# Altium schematic symbol library On_Semiconductor_SBAT54CTT1G.SchLib: 1 symbol
Pins are listed as number, name and electrical type; pins without a type are passive.

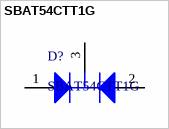
[diagram p0: symbol SBAT54CTT1G]

## SBAT54CTT1G
designator D?
Dual Series Cathode Schottky Barrier Diodes, 3-Pin SC-75, Pb-Free, Tape and Reel; Manufacturer: On Semiconductor; Note1: 0; IFSM Max (A): 0.6; Configuration: Common Cathode; trr Max (ns): 5; ComponentLink1Description: Manufacturer URL; ComponentLink2Description: Datasheet; DatasheetVersion: Rev. 4; Mounting Technology: Surface Mount; ComponentLink3URL: http://www.onsemi.com/pub_link/Collateral/463-01.PDF; ComponentLink3Description: Package Specification; ComponentLink1URL: http://www.onsemi.com/; PackageReference: SC-75-3-463-01; ComponentLink2URL: http://www.onsemi.cn/pub_link/Collateral/BAT54CTT1-D.PDF; Packing: Tape and Reel; PackageDescription: 3-Pin Small Outline Transistor, Body 1.6 x 0.8 mm, Pitch 0.5 mm; PartNumber: SBAT54CTT1G; PackageVersion: Rev. F, 07/2005; RoHS: TRUE
footprint ONSC-SC-75-3-463-01_V
pins: 1 A1, 2 A2, 3 K